# Altium schematic symbol library 418121160803.SchLib: 1 symbol
Pins are listed as number, name and electrical type; pins without a type are passive.

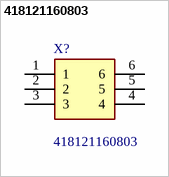
[diagram p0: symbol 418121160803]

## 418121160803
designator X?
3 Way Surface Mount DIP Switch 3P, Flat Actuator; Manufacturer_Name: Wurth Elektronik; Geometry.Height: 3mm; Manufacturer_Part_Number: 418121160803; Mouser Part Number: 710-418121160803; Mouser Price/Stock: https://www.mouser.co.uk/ProductDetail/Wurth-Elektronik/418121160803/?qs=wr8lucFkNMXIInquC4UPzg%3D%3D; Arrow Part Number: *; Arrow Price/Stock: *; Mouser Testing Part Number: *; Mouser Testing Price/Stock: *; Datasheet Link: https://katalog.we-online.com/em/datasheet/4181211608xx.pdf
footprint SOP254P980X300-6N
pins: 1, 2, 3, 4, 5, 6